# Altium integrated library ON Semi MOSFETs.IntLib: 1097 symbols (part 20 of 26)
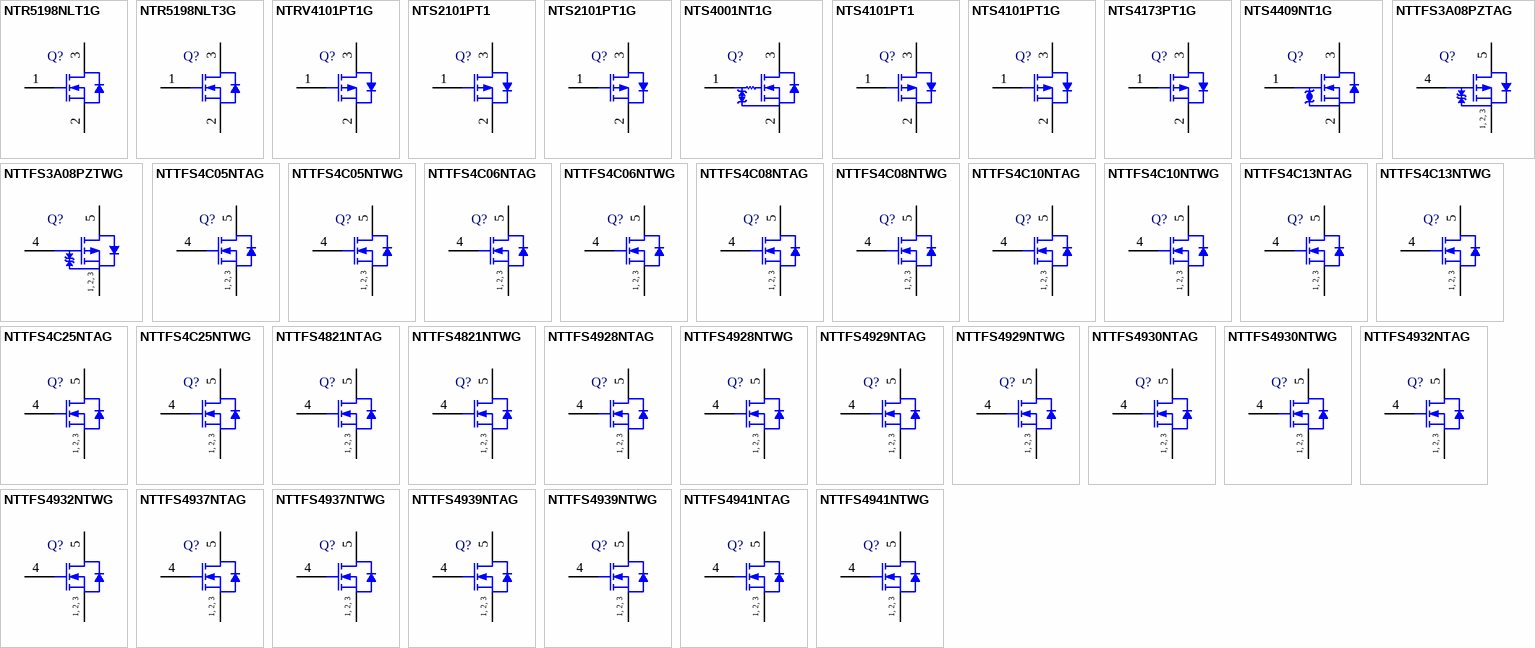
[diagram p50: symbols NTR5198NLT1G to NTTFS4941NTWG]

## NTTFS4C06NTWG
designator Q?
Power MOSFET, 30 V, 67 A, Single N-Channel, 8-Pin WDFN, Pb-Free, Tape and Reel; Manufacturer: On Semiconductor; PartNumber: NTTFS4C06NTWG; Channel Polarity: N Channel; Ciss Typ (pF): 1683; Coss Typ (pF): 841; Crss Typ (pF): 40; ID Max (A): 67; Qrr Typ (nC): 22; V(BR)DSS Min (V): 30; VGS Max (V): 20; VGS(th) Max (V): 2.2; DatasheetVersion: Rev. 0; PackageVersion: Rev. D, 04/2012; PackageReference: WDFN-8-511AB; PackageDescription: 8-Pin Small Outline No-Lead, Body 3.05 x 3.05 mm, Pitch 0.65 mm; Supplier 1: Newark; Supplier Part Number 1: 11X3692; Supplier 2: Mouser; Supplier Part Number 2: 863-NTTFS4C06NTWG; Configuration: Single; Package Type: u8FL / WDFN-8; Packing: Tape and Reel; RoHS: Pb-Free; Mounting Technology: Surface Mount; ComponentLink1Description: Manufacturer URL; ComponentLink1URL: http://www.onsemi.com/; ComponentLink2Description: Datasheet; ComponentLink2URL: http://www.onsemi.com/pub_link/Collateral/NTTFS4C06N-D.PDF; ComponentLink3Description: Package Specification; ComponentLink3URL: http://www.onsemi.com/pub_link/Collateral/511AB.PDF
footprint ONSC-WDFN-8-511AB_V (DFN, 8-Leads, Body 3.05x3.05mm, Pitch 0.65mm)
pins: 1 S, 2 S, 3 S, 4 G, 5 D
text: 1, 2, 3

## NTTFS4C08NTAG
designator Q?
Power MOSFET, 30 V, 52 A, Single N-Channel, 8-Pin WDFN, Pb-Free, Tape and Reel; Manufacturer: On Semiconductor; PartNumber: NTTFS4C08NTAG; Channel Polarity: N Channel; Ciss Typ (pF): 1113; Coss Typ (pF): 702; Crss Typ (pF): 39; ID Max (A): 52; Qrr Typ (nC): 15.3; V(BR)DSS Min (V): 30; VGS Max (V): 20; VGS(th) Max (V): 2.2; DatasheetVersion: Rev. 1; PackageVersion: Rev. D, 04/2012; PackageReference: WDFN-8-511AB; PackageDescription: 8-Pin Small Outline No-Lead, Body 3.05 x 3.05 mm, Pitch 0.65 mm; Supplier 1: Newark; Supplier Part Number 1: 11X3693; Supplier 2: Mouser; Supplier Part Number 2: 863-NTTFS4C08NTAG; Configuration: Single; Package Type: u8FL / WDFN-8; Packing: Tape and Reel; RoHS: Pb-Free; Mounting Technology: Surface Mount; ComponentLink1Description: Manufacturer URL; ComponentLink1URL: http://www.onsemi.com/; ComponentLink2Description: Datasheet; ComponentLink2URL: http://www.onsemi.com/pub_link/Collateral/NTTFS4C08N-D.PDF; ComponentLink3Description: Package Specification; ComponentLink3URL: http://www.onsemi.com/pub_link/Collateral/511AB.PDF
footprint ONSC-WDFN-8-511AB_V (DFN, 8-Leads, Body 3.05x3.05mm, Pitch 0.65mm)
pins: 1 S, 2 S, 3 S, 4 G, 5 D
text: 1, 2, 3

## NTTFS4C08NTWG
designator Q?
Power MOSFET, 30 V, 52 A, Single N-Channel, 8-Pin WDFN, Pb-Free, Tape and Reel; Manufacturer: On Semiconductor; PartNumber: NTTFS4C08NTWG; Channel Polarity: N Channel; Ciss Typ (pF): 1113; Coss Typ (pF): 702; Crss Typ (pF): 39; ID Max (A): 52; Qrr Typ (nC): 15.3; V(BR)DSS Min (V): 30; VGS Max (V): 20; VGS(th) Max (V): 2.2; DatasheetVersion: Rev. 1; PackageVersion: Rev. D, 04/2012; PackageReference: WDFN-8-511AB; PackageDescription: 8-Pin Small Outline No-Lead, Body 3.05 x 3.05 mm, Pitch 0.65 mm; Supplier 1: Newark; Supplier Part Number 1: 11X3694; Supplier 2: Mouser; Supplier Part Number 2: 863-NTTFS4C08NTWG; Configuration: Single; Package Type: u8FL / WDFN-8; Packing: Tape and Reel; RoHS: Pb-Free; Mounting Technology: Surface Mount; ComponentLink1Description: Manufacturer URL; ComponentLink1URL: http://www.onsemi.com/; ComponentLink2Description: Datasheet; ComponentLink2URL: http://www.onsemi.com/pub_link/Collateral/NTTFS4C08N-D.PDF; ComponentLink3Description: Package Specification; ComponentLink3URL: http://www.onsemi.com/pub_link/Collateral/511AB.PDF
footprint ONSC-WDFN-8-511AB_V (DFN, 8-Leads, Body 3.05x3.05mm, Pitch 0.65mm)
pins: 1 S, 2 S, 3 S, 4 G, 5 D
text: 1, 2, 3

## NTTFS4C10NTAG
designator Q?
Power MOSFET, 30 V, 44 A, Single N-Channel, 8-Pin WDFN, Pb-Free, Tape and Reel; Manufacturer: On Semiconductor; PartNumber: NTTFS4C10NTAG; Channel Polarity: N Channel; Ciss Typ (pF): 993; Coss Typ (pF): 574; Crss Typ (pF): 163; ID Max (A): 44; Qrr Typ (nC): 8.3; V(BR)DSS Min (V): 30; VGS Max (V): 20; VGS(th) Max (V): 2.2; DatasheetVersion: Rev. 2; PackageVersion: Rev. D, 04/2012; PackageReference: WDFN-8-511AB; PackageDescription: 8-Pin Small Outline No-Lead, Body 3.05 x 3.05 mm, Pitch 0.65 mm; Supplier 1: Newark; Supplier Part Number 1: 60W1814; Supplier 2: Mouser; Supplier Part Number 2: 863-NTTFS4C10NTAG; Configuration: Single; Package Type: u8FL / WDFN-8; Packing: Tape and Reel; RoHS: Pb-Free; Mounting Technology: Surface Mount; ComponentLink1Description: Manufacturer URL; ComponentLink1URL: http://www.onsemi.com/; ComponentLink2Description: Datasheet; ComponentLink2URL: http://www.onsemi.cn/pub_link/Collateral/NTTFS4C10N-D.PDF; ComponentLink3Description: Package Specification; ComponentLink3URL: http://www.onsemi.com/pub_link/Collateral/511AB.PDF
footprint ONSC-WDFN-8-511AB_V (DFN, 8-Leads, Body 3.05x3.05mm, Pitch 0.65mm)
pins: 1 S, 2 S, 3 S, 4 G, 5 D
text: 1, 2, 3

## NTTFS4C10NTWG
designator Q?
Power MOSFET, 30 V, 44 A, Single N-Channel, 8-Pin WDFN, Pb-Free, Tape and Reel; Manufacturer: On Semiconductor; PartNumber: NTTFS4C10NTWG; Channel Polarity: N Channel; Ciss Typ (pF): 993; Coss Typ (pF): 574; Crss Typ (pF): 163; ID Max (A): 44; Qrr Typ (nC): 8.3; V(BR)DSS Min (V): 30; VGS Max (V): 20; VGS(th) Max (V): 2.2; DatasheetVersion: Rev. 2; PackageVersion: Rev. D, 04/2012; PackageReference: WDFN-8-511AB; PackageDescription: 8-Pin Small Outline No-Lead, Body 3.05 x 3.05 mm, Pitch 0.65 mm; Supplier 1: Newark; Supplier Part Number 1: 60W1815; Supplier 2: Mouser; Supplier Part Number 2: 863-NTTFS4C10NTWG; Configuration: Single; Package Type: u8FL / WDFN-8; Packing: Tape and Reel; RoHS: Pb-Free; Mounting Technology: Surface Mount; ComponentLink1Description: Manufacturer URL; ComponentLink1URL: http://www.onsemi.com/; ComponentLink2Description: Datasheet; ComponentLink2URL: http://www.onsemi.cn/pub_link/Collateral/NTTFS4C10N-D.PDF; ComponentLink3Description: Package Specification; ComponentLink3URL: http://www.onsemi.com/pub_link/Collateral/511AB.PDF
footprint ONSC-WDFN-8-511AB_V (DFN, 8-Leads, Body 3.05x3.05mm, Pitch 0.65mm)
pins: 1 S, 2 S, 3 S, 4 G, 5 D
text: 1, 2, 3

## NTTFS4C13NTAG
designator Q?
Power MOSFET, 30 V, 38 A, Single N-Channel, 8-Pin WDFN, Pb-Free, Tape and Reel; Manufacturer: On Semiconductor; PartNumber: NTTFS4C13NTAG; Channel Polarity: N Channel; Ciss Typ (pF): 770; Coss Typ (pF): 443; Crss Typ (pF): 127; ID Max (A): 38; Qrr Typ (nC): 9.7; V(BR)DSS Min (V): 30; VGS Max (V): 20; VGS(th) Max (V): 2.1; DatasheetVersion: Rev. 0; PackageVersion: Rev. D, 04/2012; PackageReference: WDFN-8-511AB; PackageDescription: 8-Pin Small Outline No-Lead, Body 3.05 x 3.05 mm, Pitch 0.65 mm; Supplier 1: Newark; Supplier Part Number 1: 11X3695; Supplier 2: Mouser; Supplier Part Number 2: 863-NTTFS4C13NTAG; Configuration: Single; Package Type: u8FL / WDFN-8; Packing: Tape and Reel; RoHS: Pb-Free; Mounting Technology: Surface Mount; ComponentLink1Description: Manufacturer URL; ComponentLink1URL: http://www.onsemi.com/; ComponentLink2Description: Datasheet; ComponentLink2URL: http://www.onsemi.com/pub_link/Collateral/NTTFS4C13N-D.PDF; ComponentLink3Description: Package Specification; ComponentLink3URL: http://www.onsemi.com/pub_link/Collateral/511AB.PDF
footprint ONSC-WDFN-8-511AB_V (DFN, 8-Leads, Body 3.05x3.05mm, Pitch 0.65mm)
pins: 1 S, 2 S, 3 S, 4 G, 5 D
text: 1, 2, 3

## NTTFS4C13NTWG
designator Q?
Power MOSFET, 30 V, 38 A, Single N-Channel, 8-Pin WDFN, Pb-Free, Tape and Reel; Manufacturer: On Semiconductor; PartNumber: NTTFS4C13NTWG; Channel Polarity: N Channel; Ciss Typ (pF): 770; Coss Typ (pF): 443; Crss Typ (pF): 127; ID Max (A): 38; Qrr Typ (nC): 9.7; V(BR)DSS Min (V): 30; VGS Max (V): 20; VGS(th) Max (V): 2.1; DatasheetVersion: Rev. 0; PackageVersion: Rev. D, 04/2012; PackageReference: WDFN-8-511AB; PackageDescription: 8-Pin Small Outline No-Lead, Body 3.05 x 3.05 mm, Pitch 0.65 mm; Supplier 1: Newark; Supplier Part Number 1: 11X3696; Supplier 2: Mouser; Supplier Part Number 2: 863-NTTFS4C13NTWG; Configuration: Single; Package Type: u8FL / WDFN-8; Packing: Tape and Reel; RoHS: Pb-Free; Mounting Technology: Surface Mount; ComponentLink1Description: Manufacturer URL; ComponentLink1URL: http://www.onsemi.com/; ComponentLink2Description: Datasheet; ComponentLink2URL: http://www.onsemi.com/pub_link/Collateral/NTTFS4C13N-D.PDF; ComponentLink3Description: Package Specification; ComponentLink3URL: http://www.onsemi.com/pub_link/Collateral/511AB.PDF
footprint ONSC-WDFN-8-511AB_V (DFN, 8-Leads, Body 3.05x3.05mm, Pitch 0.65mm)
pins: 1 S, 2 S, 3 S, 4 G, 5 D
text: 1, 2, 3

## NTTFS4C25NTAG
designator Q?
Power MOSFET, 30 V, 27 A, Single N-Channel, 8-Pin WDFN, Pb-Free, Tape and Reel; Manufacturer: On Semiconductor; PartNumber: NTTFS4C25NTAG; Channel Polarity: N Channel; Ciss Typ (pF): 500; Coss Typ (pF): 295; Crss Typ (pF): 85; ID Max (A): 27; Qrr Typ (nC): 5.7; V(BR)DSS Min (V): 30; VGS Max (V): 20; VGS(th) Max (V): 2.2; DatasheetVersion: Rev. 0; PackageVersion: Rev. D, 04/2012; PackageReference: WDFN-8-511AB; PackageDescription: 8-Pin Small Outline No-Lead, Body 3.05 x 3.05 mm, Pitch 0.65 mm; Supplier 1: Newark; Supplier Part Number 1: 60W1816; Supplier 2: Mouser; Supplier Part Number 2: 863-NTTFS4C25NTAG; Configuration: Single; Package Type: u8FL / WDFN-8; Packing: Tape and Reel; RoHS: Pb-Free; Mounting Technology: Surface Mount; ComponentLink1Description: Manufacturer URL; ComponentLink1URL: http://www.onsemi.com/; ComponentLink2Description: Datasheet; ComponentLink2URL: http://www.onsemi.cn/pub_link/Collateral/NTTFS4C25N-D.PDF; ComponentLink3Description: Package Specification; ComponentLink3URL: http://www.onsemi.com/pub_link/Collateral/511AB.PDF
footprint ONSC-WDFN-8-511AB_V (DFN, 8-Leads, Body 3.05x3.05mm, Pitch 0.65mm)
pins: 1 S, 2 S, 3 S, 4 G, 5 D
text: 1, 2, 3

## NTTFS4C25NTWG
designator Q?
Power MOSFET, 30 V, 27 A, Single N-Channel, 8-Pin WDFN, Pb-Free, Tape and Reel; Manufacturer: On Semiconductor; PartNumber: NTTFS4C25NTWG; Channel Polarity: N Channel; Ciss Typ (pF): 500; Coss Typ (pF): 295; Crss Typ (pF): 85; ID Max (A): 27; Qrr Typ (nC): 5.7; V(BR)DSS Min (V): 30; VGS Max (V): 20; VGS(th) Max (V): 2.2; DatasheetVersion: Rev. 0; PackageVersion: Rev. D, 04/2012; PackageReference: WDFN-8-511AB; PackageDescription: 8-Pin Small Outline No-Lead, Body 3.05 x 3.05 mm, Pitch 0.65 mm; Supplier 1: Newark; Supplier Part Number 1: 60W1817; Supplier 2: Mouser; Supplier Part Number 2: 863-NTTFS4C25NTWG; Configuration: Single; Package Type: u8FL / WDFN-8; Packing: Tape and Reel; RoHS: Pb-Free; Mounting Technology: Surface Mount; ComponentLink1Description: Manufacturer URL; ComponentLink1URL: http://www.onsemi.com/; ComponentLink2Description: Datasheet; ComponentLink2URL: http://www.onsemi.cn/pub_link/Collateral/NTTFS4C25N-D.PDF; ComponentLink3Description: Package Specification; ComponentLink3URL: http://www.onsemi.com/pub_link/Collateral/511AB.PDF
footprint ONSC-WDFN-8-511AB_V (DFN, 8-Leads, Body 3.05x3.05mm, Pitch 0.65mm)
pins: 1 S, 2 S, 3 S, 4 G, 5 D
text: 1, 2, 3

## NTTFS4821NTAG
designator Q?
Power MOSFET, 30 V, 57 A, Single N-Channel, 8-Pin WDFN, Pb-Free, Tape and Reel; Manufacturer: On Semiconductor; PartNumber: NTTFS4821NTAG; Channel Polarity: N Channel; Ciss Typ (pF): 1300; Coss Typ (pF): 300; Crss Typ (pF): 150; ID Max (A): 57; Qrr Typ (nC): 1.7; V(BR)DSS Min (V): 30; VGS Max (V): 20; VGS(th) Max (V): 2.5; DatasheetVersion: Rev. 5; PackageVersion: Rev. D, 04/2012; PackageReference: WDFN-8-511AB; PackageDescription: 8-Pin Small Outline No-Lead, Body 3.05 x 3.05 mm, Pitch 0.65 mm; Supplier 1: Digi-Key; Supplier Part Number 1: NTTFS4821NTAGOSTR-ND; Supplier 2: Digi-Key; Supplier Part Number 2: NTTFS4821NTAGOSCT-ND; Supplier 3: Digi-Key; Supplier Part Number 3: NTTFS4821NTAGOSDKR-ND; Supplier 4: Mouser; Supplier Part Number 4: 863-NTTFS4821NTAG; Configuration: Single; Package Type: u8FL / WDFN-8; Packing: Tape and Reel; RoHS: Pb-Free; Mounting Technology: Surface Mount; ComponentLink1Description: Manufacturer URL; ComponentLink1URL: http://www.onsemi.com/; ComponentLink2Description: Datasheet; ComponentLink2URL: http://www.onsemi.cn/pub_link/Collateral/NTTFS4821N-D.PDF; ComponentLink3Description: Package Specification; ComponentLink3URL: http://www.onsemi.com/pub_link/Collateral/511AB.PDF
footprint ONSC-WDFN-8-511AB_V (DFN, 8-Leads, Body 3.05x3.05mm, Pitch 0.65mm)
pins: 1 S, 2 S, 3 S, 4 G, 5 D
text: 1, 2, 3

## NTTFS4821NTWG
designator Q?
Power MOSFET, 30 V, 57 A, Single N-Channel, 8-Pin WDFN, Pb-Free, Tape and Reel; Manufacturer: On Semiconductor; PartNumber: NTTFS4821NTWG; Channel Polarity: N Channel; Ciss Typ (pF): 1300; Coss Typ (pF): 300; Crss Typ (pF): 150; ID Max (A): 57; Qrr Typ (nC): 1.7; V(BR)DSS Min (V): 30; VGS Max (V): 20; VGS(th) Max (V): 2.5; DatasheetVersion: Rev. 5; PackageVersion: Rev. D, 04/2012; PackageReference: WDFN-8-511AB; PackageDescription: 8-Pin Small Outline No-Lead, Body 3.05 x 3.05 mm, Pitch 0.65 mm; Supplier 1: Digi-Key; Supplier Part Number 1: NTTFS4821NTWG-ND; Supplier 2: Mouser; Supplier Part Number 2: 863-NTTFS4821NTWG; Configuration: Single; Package Type: u8FL / WDFN-8; Packing: Tape and Reel; RoHS: Pb-Free; Mounting Technology: Surface Mount; ComponentLink1Description: Manufacturer URL; ComponentLink1URL: http://www.onsemi.com/; ComponentLink2Description: Datasheet; ComponentLink2URL: http://www.onsemi.cn/pub_link/Collateral/NTTFS4821N-D.PDF; ComponentLink3Description: Package Specification; ComponentLink3URL: http://www.onsemi.com/pub_link/Collateral/511AB.PDF
footprint ONSC-WDFN-8-511AB_V (DFN, 8-Leads, Body 3.05x3.05mm, Pitch 0.65mm)
pins: 1 S, 2 S, 3 S, 4 G, 5 D
text: 1, 2, 3

## NTTFS4928NTAG
designator Q?
Power MOSFET, 30 V, 37 A, Single N-Channel, 8-Pin WDFN, Pb-Free, Tape and Reel; Manufacturer: On Semiconductor; PartNumber: NTTFS4928NTAG; Channel Polarity: N Channel; Ciss Typ (pF): 913; Coss Typ (pF): 366; Crss Typ (pF): 108; ID Max (A): 37; Qrr Typ (nC): 8.4; V(BR)DSS Min (V): 30; VGS Max (V): 20; VGS(th) Max (V): 2.2; DatasheetVersion: Rev. 2; PackageVersion: Rev. D, 04/2012; PackageReference: WDFN-8-511AB; PackageDescription: 8-Pin Small Outline No-Lead, Body 3.05 x 3.05 mm, Pitch 0.65 mm; Supplier 1: Digi-Key; Supplier Part Number 1: NTTFS4928NTAGOSTR-ND; Supplier 2: Digi-Key; Supplier Part Number 2: NTTFS4928NTAGOSCT-ND; Supplier 3: Digi-Key; Supplier Part Number 3: NTTFS4928NTAGOSDKR-ND; Supplier 4: Mouser; Supplier Part Number 4: 863-NTTFS4928NTAG; Configuration: Single; Package Type: u8FL / WDFN-8; Packing: Tape and Reel; RoHS: Pb-Free; Mounting Technology: Surface Mount; ComponentLink1Description: Manufacturer URL; ComponentLink1URL: http://www.onsemi.com/; ComponentLink2Description: Datasheet; ComponentLink2URL: http://www.onsemi.cn/pub_link/Collateral/NTTFS4928N-D.PDF; ComponentLink3Description: Package Specification; ComponentLink3URL: http://www.onsemi.com/pub_link/Collateral/511AB.PDF
footprint ONSC-WDFN-8-511AB_V (DFN, 8-Leads, Body 3.05x3.05mm, Pitch 0.65mm)
pins: 1 S, 2 S, 3 S, 4 G, 5 D
text: 1, 2, 3

## NTTFS4928NTWG
designator Q?
Power MOSFET, 30 V, 37 A, Single N-Channel, 8-Pin WDFN, Pb-Free, Tape and Reel; Manufacturer: On Semiconductor; PartNumber: NTTFS4928NTWG; Channel Polarity: N Channel; Ciss Typ (pF): 913; Coss Typ (pF): 366; Crss Typ (pF): 108; ID Max (A): 37; Qrr Typ (nC): 8.4; V(BR)DSS Min (V): 30; VGS Max (V): 20; VGS(th) Max (V): 2.2; DatasheetVersion: Rev. 2; PackageVersion: Rev. D, 04/2012; PackageReference: WDFN-8-511AB; PackageDescription: 8-Pin Small Outline No-Lead, Body 3.05 x 3.05 mm, Pitch 0.65 mm; Supplier 1: Digi-Key; Supplier Part Number 1: NTTFS4928NTWG-ND; Supplier 2: Newark; Supplier Part Number 2: 52T8341; Supplier 3: Mouser; Supplier Part Number 3: 863-NTTFS4928NTWG; Configuration: Single; Package Type: u8FL / WDFN-8; Packing: Tape and Reel; RoHS: Pb-Free; Mounting Technology: Surface Mount; ComponentLink1Description: Manufacturer URL; ComponentLink1URL: http://www.onsemi.com/; ComponentLink2Description: Datasheet; ComponentLink2URL: http://www.onsemi.cn/pub_link/Collateral/NTTFS4928N-D.PDF; ComponentLink3Description: Package Specification; ComponentLink3URL: http://www.onsemi.com/pub_link/Collateral/511AB.PDF
footprint ONSC-WDFN-8-511AB_V (DFN, 8-Leads, Body 3.05x3.05mm, Pitch 0.65mm)
pins: 1 S, 2 S, 3 S, 4 G, 5 D
text: 1, 2, 3

## NTTFS4929NTAG
designator Q?
Power MOSFET, 30 V, 34 A, Single N-Channel, 8-Pin WDFN, Pb-Free, Tape and Reel; Manufacturer: On Semiconductor; PartNumber: NTTFS4929NTAG; Channel Polarity: N Channel; Ciss Typ (pF): 920; Coss Typ (pF): 337; Crss Typ (pF): 175; ID Max (A): 34; Qrr Typ (nC): 9.1; V(BR)DSS Min (V): 30; VGS Max (V): 20; VGS(th) Max (V): 2.2; DatasheetVersion: Rev. 1; PackageVersion: Rev. D, 04/2012; PackageReference: WDFN-8-511AB; PackageDescription: 8-Pin Small Outline No-Lead, Body 3.05 x 3.05 mm, Pitch 0.65 mm; Supplier 1: Digi-Key; Supplier Part Number 1: NTTFS4929NTAG-ND; Supplier 2: Mouser; Supplier Part Number 2: 863-NTTFS4929NTAG; Configuration: Single; Package Type: u8FL / WDFN-8; Packing: Tape and Reel; RoHS: Pb-Free; Mounting Technology: Surface Mount; ComponentLink1Description: Manufacturer URL; ComponentLink1URL: http://www.onsemi.com/; ComponentLink2Description: Datasheet; ComponentLink2URL: http://www.onsemi.cn/pub_link/Collateral/NTTFS4929N.PDF; ComponentLink3Description: Package Specification; ComponentLink3URL: http://www.onsemi.com/pub_link/Collateral/511AB.PDF
footprint ONSC-WDFN-8-511AB_V (DFN, 8-Leads, Body 3.05x3.05mm, Pitch 0.65mm)
pins: 1 S, 2 S, 3 S, 4 G, 5 D
text: 1, 2, 3

## NTTFS4929NTWG
designator Q?
Power MOSFET, 30 V, 34 A, Single N-Channel, 8-Pin WDFN, Pb-Free, Tape and Reel; Manufacturer: On Semiconductor; PartNumber: NTTFS4929NTWG; Channel Polarity: N Channel; Ciss Typ (pF): 920; Coss Typ (pF): 337; Crss Typ (pF): 175; ID Max (A): 34; Qrr Typ (nC): 9.1; V(BR)DSS Min (V): 30; VGS Max (V): 20; VGS(th) Max (V): 2.2; DatasheetVersion: Rev. 1; PackageVersion: Rev. D, 04/2012; PackageReference: WDFN-8-511AB; PackageDescription: 8-Pin Small Outline No-Lead, Body 3.05 x 3.05 mm, Pitch 0.65 mm; Supplier 1: Digi-Key; Supplier Part Number 1: NTTFS4929NTWG-ND; Supplier 2: Mouser; Supplier Part Number 2: 863-NTTFS4929NTWG; Configuration: Single; Package Type: u8FL / WDFN-8; Packing: Tape and Reel; RoHS: Pb-Free; Mounting Technology: Surface Mount; ComponentLink1Description: Manufacturer URL; ComponentLink1URL: http://www.onsemi.com/; ComponentLink2Description: Datasheet; ComponentLink2URL: http://www.onsemi.cn/pub_link/Collateral/NTTFS4929N.PDF; ComponentLink3Description: Package Specification; ComponentLink3URL: http://www.onsemi.com/pub_link/Collateral/511AB.PDF
footprint ONSC-WDFN-8-511AB_V (DFN, 8-Leads, Body 3.05x3.05mm, Pitch 0.65mm)
pins: 1 S, 2 S, 3 S, 4 G, 5 D
text: 1, 2, 3

## NTTFS4930NTAG
designator Q?
Power MOSFET, 30 V, 23 A, Single N-Channel, 8-Pin WDFN, Pb-Free, Tape and Reel; Manufacturer: On Semiconductor; PartNumber: NTTFS4930NTAG; Channel Polarity: N Channel; Ciss Typ (pF): 476; Coss Typ (pF): 197; Crss Typ (pF): 101; ID Max (A): 23; Qrr Typ (nC): 4.6; V(BR)DSS Min (V): 30; VGS Max (V): 20; VGS(th) Max (V): 2.2; DatasheetVersion: Rev. 2; PackageVersion: Rev. D, 04/2012; PackageReference: WDFN-8-511AB; PackageDescription: 8-Pin Small Outline No-Lead, Body 3.05 x 3.05 mm, Pitch 0.65 mm; Supplier 1: Digi-Key; Supplier Part Number 1: NTTFS4930NTAG-ND; Supplier 2: Mouser; Supplier Part Number 2: 863-NTTFS4930NTAG; Configuration: Single; Package Type: u8FL / WDFN-8; Packing: Tape and Reel; RoHS: Pb-Free; Mounting Technology: Surface Mount; ComponentLink1Description: Manufacturer URL; ComponentLink1URL: http://www.onsemi.com/; ComponentLink2Description: Datasheet; ComponentLink2URL: http://www.onsemi.cn/pub_link/Collateral/NTTFS4930N-D.PDF; ComponentLink3Description: Package Specification; ComponentLink3URL: http://www.onsemi.com/pub_link/Collateral/511AB.PDF
footprint ONSC-WDFN-8-511AB_V (DFN, 8-Leads, Body 3.05x3.05mm, Pitch 0.65mm)
pins: 1 S, 2 S, 3 S, 4 G, 5 D
text: 1, 2, 3

## NTTFS4930NTWG
designator Q?
Power MOSFET, 30 V, 23 A, Single N-Channel, 8-Pin WDFN, Pb-Free, Tape and Reel; Manufacturer: On Semiconductor; PartNumber: NTTFS4930NTWG; Channel Polarity: N Channel; Ciss Typ (pF): 476; Coss Typ (pF): 197; Crss Typ (pF): 101; ID Max (A): 23; Qrr Typ (nC): 4.6; V(BR)DSS Min (V): 30; VGS Max (V): 20; VGS(th) Max (V): 2.2; DatasheetVersion: Rev. 2; PackageVersion: Rev. D, 04/2012; PackageReference: WDFN-8-511AB; PackageDescription: 8-Pin Small Outline No-Lead, Body 3.05 x 3.05 mm, Pitch 0.65 mm; Supplier 1: Digi-Key; Supplier Part Number 1: NTTFS4930NTWG-ND; Supplier 2: Mouser; Supplier Part Number 2: 863-NTTFS4930NTWG; Configuration: Single; Package Type: u8FL / WDFN-8; Packing: Tape and Reel; RoHS: Pb-Free; Mounting Technology: Surface Mount; ComponentLink1Description: Manufacturer URL; ComponentLink1URL: http://www.onsemi.com/; ComponentLink2Description: Datasheet; ComponentLink2URL: http://www.onsemi.cn/pub_link/Collateral/NTTFS4930N-D.PDF; ComponentLink3Description: Package Specification; ComponentLink3URL: http://www.onsemi.com/pub_link/Collateral/511AB.PDF
footprint ONSC-WDFN-8-511AB_V (DFN, 8-Leads, Body 3.05x3.05mm, Pitch 0.65mm)
pins: 1 S, 2 S, 3 S, 4 G, 5 D
text: 1, 2, 3

## NTTFS4932NTAG
designator Q?
Power MOSFET, 30 V, 79 A, Single N-Channel, 8-Pin WDFN, Pb-Free, Tape and Reel; Manufacturer: On Semiconductor; PartNumber: NTTFS4932NTAG; Channel Polarity: N Channel; Ciss Typ (pF): 3111; Coss Typ (pF): 1064; Crss Typ (pF): 42; ID Max (A): 79; Qrr Typ (nC): 37.5; V(BR)DSS Min (V): 30; VGS Max (V): 20; VGS(th) Max (V): 2.2; DatasheetVersion: Rev. 2; PackageVersion: Rev. D, 04/2012; PackageReference: WDFN-8-511AB; PackageDescription: 8-Pin Small Outline No-Lead, Body 3.05 x 3.05 mm, Pitch 0.65 mm; Supplier 1: Digi-Key; Supplier Part Number 1: NTTFS4932NTAGOSTR-ND; Supplier 2: Digi-Key; Supplier Part Number 2: NTTFS4932NTAGOSCT-ND; Supplier 3: Digi-Key; Supplier Part Number 3: NTTFS4932NTAGOSDKR-ND; Supplier 4: Mouser; Supplier Part Number 4: 863-NTTFS4932NTAG; Configuration: Single; Package Type: u8FL / WDFN-8; Packing: Tape and Reel; RoHS: Pb-Free; Mounting Technology: Surface Mount; ComponentLink1Description: Manufacturer URL; ComponentLink1URL: http://www.onsemi.com/; ComponentLink2Description: Datasheet; ComponentLink2URL: http://www.onsemi.cn/pub_link/Collateral/NTTFS4932N-D.PDF; ComponentLink3Description: Package Specification; ComponentLink3URL: http://www.onsemi.com/pub_link/Collateral/511AB.PDF
footprint ONSC-WDFN-8-511AB_V (DFN, 8-Leads, Body 3.05x3.05mm, Pitch 0.65mm)
pins: 1 S, 2 S, 3 S, 4 G, 5 D
text: 1, 2, 3

## NTTFS4932NTWG
designator Q?
Power MOSFET, 30 V, 79 A, Single N-Channel, 8-Pin WDFN, Pb-Free, Tape and Reel; Manufacturer: On Semiconductor; PartNumber: NTTFS4932NTWG; Channel Polarity: N Channel; Ciss Typ (pF): 3111; Coss Typ (pF): 1064; Crss Typ (pF): 42; ID Max (A): 79; Qrr Typ (nC): 37.5; V(BR)DSS Min (V): 30; VGS Max (V): 20; VGS(th) Max (V): 2.2; DatasheetVersion: Rev. 2; PackageVersion: Rev. D, 04/2012; PackageReference: WDFN-8-511AB; PackageDescription: 8-Pin Small Outline No-Lead, Body 3.05 x 3.05 mm, Pitch 0.65 mm; Supplier 1: Digi-Key; Supplier Part Number 1: NTTFS4932NTWG-ND; Supplier 2: Mouser; Supplier Part Number 2: 863-NTTFS4932NTWG; Configuration: Single; Package Type: u8FL / WDFN-8; Packing: Tape and Reel; RoHS: Pb-Free; Mounting Technology: Surface Mount; ComponentLink1Description: Manufacturer URL; ComponentLink1URL: http://www.onsemi.com/; ComponentLink2Description: Datasheet; ComponentLink2URL: http://www.onsemi.cn/pub_link/Collateral/NTTFS4932N-D.PDF; ComponentLink3Description: Package Specification; ComponentLink3URL: http://www.onsemi.com/pub_link/Collateral/511AB.PDF
footprint ONSC-WDFN-8-511AB_V (DFN, 8-Leads, Body 3.05x3.05mm, Pitch 0.65mm)
pins: 1 S, 2 S, 3 S, 4 G, 5 D
text: 1, 2, 3

## NTTFS4937NTAG
designator Q?
Power MOSFET, 30 V, 75 A, Single N-Channel, 8-Pin WDFN, Pb-Free, Tape and Reel; Manufacturer: On Semiconductor; PartNumber: NTTFS4937NTAG; Channel Polarity: N Channel; Ciss Typ (pF): 2540; Coss Typ (pF): 893; Crss Typ (pF): 26; ID Max (A): 75; Qrr Typ (nC): 33; V(BR)DSS Min (V): 30; VGS Max (V): 20; VGS(th) Max (V): 2.2; DatasheetVersion: Rev. 3; PackageVersion: Rev. D, 04/2012; PackageReference: WDFN-8-511AB; PackageDescription: 8-Pin Small Outline No-Lead, Body 3.05 x 3.05 mm, Pitch 0.65 mm; Supplier 1: Digi-Key; Supplier Part Number 1: NTTFS4937NTAG-ND; Supplier 2: Mouser; Supplier Part Number 2: 863-NTTFS4937NTAG; Configuration: Single; Package Type: u8FL / WDFN-8; Packing: Tape and Reel; RoHS: Pb-Free; Mounting Technology: Surface Mount; ComponentLink1Description: Manufacturer URL; ComponentLink1URL: http://www.onsemi.com/; ComponentLink2Description: Datasheet; ComponentLink2URL: http://www.onsemi.cn/pub_link/Collateral/NTTFS4937N-D.PDF; ComponentLink3Description: Package Specification; ComponentLink3URL: http://www.onsemi.com/pub_link/Collateral/511AB.PDF
footprint ONSC-WDFN-8-511AB_V (DFN, 8-Leads, Body 3.05x3.05mm, Pitch 0.65mm)
pins: 1 S, 2 S, 3 S, 4 G, 5 D
text: 1, 2, 3

## NTTFS4937NTWG
designator Q?
Power MOSFET, 30 V, 75 A, Single N-Channel, 8-Pin WDFN, Pb-Free, Tape and Reel; Manufacturer: On Semiconductor; PartNumber: NTTFS4937NTWG; Channel Polarity: N Channel; Ciss Typ (pF): 2540; Coss Typ (pF): 893; Crss Typ (pF): 26; ID Max (A): 75; Qrr Typ (nC): 33; V(BR)DSS Min (V): 30; VGS Max (V): 20; VGS(th) Max (V): 2.2; DatasheetVersion: Rev. 3; PackageVersion: Rev. D, 04/2012; PackageReference: WDFN-8-511AB; PackageDescription: 8-Pin Small Outline No-Lead, Body 3.05 x 3.05 mm, Pitch 0.65 mm; Supplier 1: Digi-Key; Supplier Part Number 1: NTTFS4937NTWG-ND; Supplier 2: Mouser; Supplier Part Number 2: 863-NTTFS4937NTWG; Configuration: Single; Package Type: u8FL / WDFN-8; Packing: Tape and Reel; RoHS: Pb-Free; Mounting Technology: Surface Mount; ComponentLink1Description: Manufacturer URL; ComponentLink1URL: http://www.onsemi.com/; ComponentLink2Description: Datasheet; ComponentLink2URL: http://www.onsemi.cn/pub_link/Collateral/NTTFS4937N-D.PDF; ComponentLink3Description: Package Specification; ComponentLink3URL: http://www.onsemi.com/pub_link/Collateral/511AB.PDF
footprint ONSC-WDFN-8-511AB_V (DFN, 8-Leads, Body 3.05x3.05mm, Pitch 0.65mm)
pins: 1 S, 2 S, 3 S, 4 G, 5 D
text: 1, 2, 3

## NTTFS4939NTAG
designator Q?
Power MOSFET, 30 V, 52 A, Single N-Channel, 8-Pin WDFN, Pb-Free, Tape and Reel; Manufacturer: On Semiconductor; PartNumber: NTTFS4939NTAG; Channel Polarity: N Channel; Ciss Typ (pF): 1979; Coss Typ (pF): 711; Crss Typ (pF): 20.2; ID Max (A): 52; Qrr Typ (nC): 28; V(BR)DSS Min (V): 30; VGS Max (V): 20; VGS(th) Max (V): 2.2; DatasheetVersion: Rev. 3; PackageVersion: Rev. D, 04/2012; PackageReference: WDFN-8-511AB; PackageDescription: 8-Pin Small Outline No-Lead, Body 3.05 x 3.05 mm, Pitch 0.65 mm; Supplier 1: Digi-Key; Supplier Part Number 1: NTTFS4939NTAG-ND; Supplier 2: Newark; Supplier Part Number 2: 52R8727; Supplier 3: Mouser; Supplier Part Number 3: 863-NTTFS4939NTAG; Configuration: Single; Package Type: u8FL / WDFN-8; Packing: Tape and Reel; RoHS: Pb-Free; Mounting Technology: Surface Mount; ComponentLink1Description: Manufacturer URL; ComponentLink1URL: http://www.onsemi.com/; ComponentLink2Description: Datasheet; ComponentLink2URL: http://www.onsemi.cn/pub_link/Collateral/NTTFS4939N-D.PDF; ComponentLink3Description: Package Specification; ComponentLink3URL: http://www.onsemi.com/pub_link/Collateral/511AB.PDF
footprint ONSC-WDFN-8-511AB_V (DFN, 8-Leads, Body 3.05x3.05mm, Pitch 0.65mm)
pins: 1 S, 2 S, 3 S, 4 G, 5 D
text: 1, 2, 3

## NTTFS4939NTWG
designator Q?
Power MOSFET, 30 V, 52 A, Single N-Channel, 8-Pin WDFN, Pb-Free, Tape and Reel; Manufacturer: On Semiconductor; PartNumber: NTTFS4939NTWG; Channel Polarity: N Channel; Ciss Typ (pF): 1979; Coss Typ (pF): 711; Crss Typ (pF): 20.2; ID Max (A): 52; Qrr Typ (nC): 28; V(BR)DSS Min (V): 30; VGS Max (V): 20; VGS(th) Max (V): 2.2; DatasheetVersion: Rev. 3; PackageVersion: Rev. D, 04/2012; PackageReference: WDFN-8-511AB; PackageDescription: 8-Pin Small Outline No-Lead, Body 3.05 x 3.05 mm, Pitch 0.65 mm; Supplier 1: Digi-Key; Supplier Part Number 1: NTTFS4939NTWG-ND; Supplier 2: Newark; Supplier Part Number 2: 52R8728; Supplier 3: Mouser; Supplier Part Number 3: 863-NTTFS4939NTWG; Configuration: Single; Package Type: u8FL / WDFN-8; Packing: Tape and Reel; RoHS: Pb-Free; Mounting Technology: Surface Mount; ComponentLink1Description: Manufacturer URL; ComponentLink1URL: http://www.onsemi.com/; ComponentLink2Description: Datasheet; ComponentLink2URL: http://www.onsemi.cn/pub_link/Collateral/NTTFS4939N-D.PDF; ComponentLink3Description: Package Specification; ComponentLink3URL: http://www.onsemi.com/pub_link/Collateral/511AB.PDF
footprint ONSC-WDFN-8-511AB_V (DFN, 8-Leads, Body 3.05x3.05mm, Pitch 0.65mm)
pins: 1 S, 2 S, 3 S, 4 G, 5 D
text: 1, 2, 3

## NTTFS4941NTAG
designator Q?
Power MOSFET, 30 V, 46 A, Single N-Channel, 8-Pin WDFN, Pb-Free, Tape and Reel; Manufacturer: On Semiconductor; PartNumber: NTTFS4941NTAG; Channel Polarity: N Channel; Ciss Typ (pF): 1619; Coss Typ (pF): 573; Crss Typ (pF): 18; ID Max (A): 46; Qrr Typ (nC): 22; V(BR)DSS Min (V): 30; VGS Max (V): 20; VGS(th) Max (V): 2.2; DatasheetVersion: Rev. 2; PackageVersion: Rev. D, 04/2012; PackageReference: WDFN-8-511AB; PackageDescription: 8-Pin Small Outline No-Lead, Body 3.05 x 3.05 mm, Pitch 0.65 mm; Supplier 1: Digi-Key; Supplier Part Number 1: NTTFS4941NTAG-ND; Supplier 2: Mouser; Supplier Part Number 2: 863-NTTFS4941NTAG; Configuration: Single; Package Type: u8FL / WDFN-8; Packing: Tape and Reel; RoHS: Pb-Free; Mounting Technology: Surface Mount; ComponentLink1Description: Manufacturer URL; ComponentLink1URL: http://www.onsemi.com/; ComponentLink2Description: Datasheet; ComponentLink2URL: http://www.onsemi.cn/pub_link/Collateral/NTTFS4941N-D.PDF; ComponentLink3Description: Package Specification; ComponentLink3URL: http://www.onsemi.com/pub_link/Collateral/511AB.PDF
footprint ONSC-WDFN-8-511AB_V (DFN, 8-Leads, Body 3.05x3.05mm, Pitch 0.65mm)
pins: 1 S, 2 S, 3 S, 4 G, 5 D
text: 1, 2, 3

## NTTFS4941NTWG
designator Q?
Power MOSFET, 30 V, 46 A, Single N-Channel, 8-Pin WDFN, Pb-Free, Tape and Reel; Manufacturer: On Semiconductor; PartNumber: NTTFS4941NTWG; Channel Polarity: N Channel; Ciss Typ (pF): 1619; Coss Typ (pF): 573; Crss Typ (pF): 18; ID Max (A): 46; Qrr Typ (nC): 22; V(BR)DSS Min (V): 30; VGS Max (V): 20; VGS(th) Max (V): 2.2; DatasheetVersion: Rev. 2; PackageVersion: Rev. D, 04/2012; PackageReference: WDFN-8-511AB; PackageDescription: 8-Pin Small Outline No-Lead, Body 3.05 x 3.05 mm, Pitch 0.65 mm; Supplier 1: Digi-Key; Supplier Part Number 1: NTTFS4941NTWG-ND; Supplier 2: Mouser; Supplier Part Number 2: 863-NTTFS4941NTWG; Configuration: Single; Package Type: u8FL / WDFN-8; Packing: Tape and Reel; RoHS: Pb-Free; Mounting Technology: Surface Mount; ComponentLink1Description: Manufacturer URL; ComponentLink1URL: http://www.onsemi.com/; ComponentLink2Description: Datasheet; ComponentLink2URL: http://www.onsemi.cn/pub_link/Collateral/NTTFS4941N-D.PDF; ComponentLink3Description: Package Specification; ComponentLink3URL: http://www.onsemi.com/pub_link/Collateral/511AB.PDF
footprint ONSC-WDFN-8-511AB_V (DFN, 8-Leads, Body 3.05x3.05mm, Pitch 0.65mm)
pins: 1 S, 2 S, 3 S, 4 G, 5 D
text: 1, 2, 3

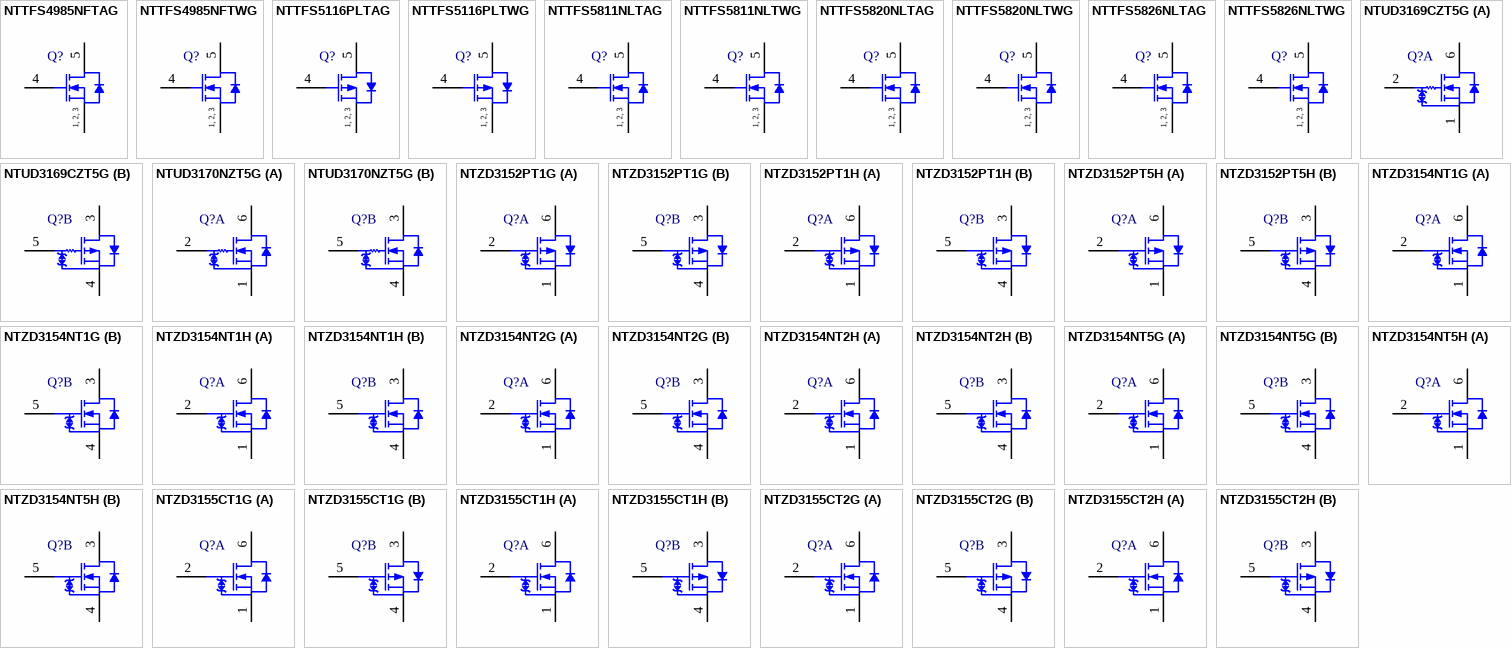
[diagram p24: symbols NTTFS4985NFTAG to NTZD3155CT2H]

## NTTFS4985NFTAG
designator Q?
Power MOSFET, 30 V, 64 A, Single N-Channel, 8-Pin WDFN, Pb-Free, Tape and Reel; Manufacturer: On Semiconductor; PartNumber: NTTFS4985NFTAG; Channel Polarity: N Channel; Ciss Typ (pF): 2075; Configuration: with Schottky Diode; Coss Typ (pF): 876; Crss Typ (pF): 46; ID Max (A): 64; Qrr Typ (nC): 32; V(BR)DSS Min (V): 30; VGS Max (V): 20; VGS(th) Max (V): 2.3; DatasheetVersion: Rev. 1; PackageVersion: Rev. D, 04/2012; PackageReference: WDFN-8-511AB; PackageDescription: 8-Pin Small Outline No-Lead, Body 3.05 x 3.05 mm, Pitch 0.65 mm; Supplier 1: Digi-Key; Supplier Part Number 1: NTTFS4985NFTAGOSTR-ND; Supplier 2: Digi-Key; Supplier Part Number 2: NTTFS4985NFTAGOSCT-ND; Supplier 3: Digi-Key; Supplier Part Number 3: NTTFS4985NFTAGOSDKR-ND; Supplier 4: Newark; Supplier Part Number 4: 92T2209; Supplier 5: Mouser; Supplier Part Number 5: 863-NTTFS4985NFTAG; Package Type: u8FL / WDFN-8; Packing: Tape and Reel; RoHS: Pb-Free; Mounting Technology: Surface Mount; ComponentLink1Description: Manufacturer URL; ComponentLink1URL: http://www.onsemi.com/; ComponentLink2Description: Datasheet; ComponentLink2URL: http://www.onsemi.cn/pub_link/Collateral/NTTFS4985NF-D.PDF; ComponentLink3Description: Package Specification; ComponentLink3URL: http://www.onsemi.com/pub_link/Collateral/511AB.PDF
footprint ONSC-WDFN-8-511AB_V (DFN, 8-Leads, Body 3.05x3.05mm, Pitch 0.65mm)
pins: 1 S, 2 S, 3 S, 4 G, 5 D
text: 1, 2, 3

## NTTFS4985NFTWG
designator Q?
Power MOSFET, 30 V, 64 A, Single N-Channel, 8-Pin WDFN, Pb-Free, Tape and Reel; Manufacturer: On Semiconductor; PartNumber: NTTFS4985NFTWG; Channel Polarity: N Channel; Ciss Typ (pF): 2075; Configuration: with Schottky Diode; Coss Typ (pF): 876; Crss Typ (pF): 46; ID Max (A): 64; Qrr Typ (nC): 32; V(BR)DSS Min (V): 30; VGS Max (V): 20; VGS(th) Max (V): 2.3; DatasheetVersion: Rev. 1; PackageVersion: Rev. D, 04/2012; PackageReference: WDFN-8-511AB; PackageDescription: 8-Pin Small Outline No-Lead, Body 3.05 x 3.05 mm, Pitch 0.65 mm; Package Type: u8FL / WDFN-8; Packing: Tape and Reel; RoHS: Pb-Free; Mounting Technology: Surface Mount; ComponentLink1Description: Manufacturer URL; ComponentLink1URL: http://www.onsemi.com/; ComponentLink2Description: Datasheet; ComponentLink2URL: http://www.onsemi.cn/pub_link/Collateral/NTTFS4985NF-D.PDF; ComponentLink3Description: Package Specification; ComponentLink3URL: http://www.onsemi.com/pub_link/Collateral/511AB.PDF
footprint ONSC-WDFN-8-511AB_V (DFN, 8-Leads, Body 3.05x3.05mm, Pitch 0.65mm)
pins: 1 S, 2 S, 3 S, 4 G, 5 D
text: 1, 2, 3

## NTTFS5116PLTAG
designator Q?
Power MOSFET, -60 V, -20 A, 52 mOhm, 8-Pin WDFN, Pb-Free, Tape and Reel; Manufacturer: On Semiconductor; PartNumber: NTTFS5116PLTAG; Channel Polarity: P Channel; Ciss Typ (pF): 1258; Configuration: Single; Coss Typ (pF): 127; Crss Typ (pF): 84; ID Max (A): 20; Qrr Typ (nC): 19; V(BR)DSS Min (V): 60; VGS(th) Max (V): 3; DatasheetVersion: Rev. 1; PackageVersion: Rev. D, 04/2012; PackageReference: WDFN-8-511AB; PackageDescription: 8-Pin Small Outline No-Lead, Body 3.05 x 3.05 mm, Pitch 0.65 mm; Supplier 1: Digi-Key; Supplier Part Number 1: NTTFS5116PLTAGOSTR-ND; Supplier 2: Digi-Key; Supplier Part Number 2: NTTFS5116PLTAGOSCT-ND; Supplier 3: Digi-Key; Supplier Part Number 3: NTTFS5116PLTAGOSDKR-ND; Supplier 4: Mouser; Supplier Part Number 4: 863-NTTFS5116PLTAG; Package Type: u8FL / WDFN-8; Packing: Tape and Reel; RoHS: Pb-Free; VGS Max (V): 20; Mounting Technology: Surface Mount; ComponentLink1Description: Manufacturer URL; ComponentLink1URL: http://www.onsemi.com/; ComponentLink2Description: Datasheet; ComponentLink2URL: http://www.onsemi.cn/pub_link/Collateral/NTTFS5116PL-D.PDF; ComponentLink3Description: Package Specification; ComponentLink3URL: http://www.onsemi.com/pub_link/Collateral/511AB.PDF
footprint ONSC-WDFN-8-511AB_V (DFN, 8-Leads, Body 3.05x3.05mm, Pitch 0.65mm)
pins: 1 S, 2 S, 3 S, 4 G, 5 D
text: 1, 2, 3

## NTTFS5116PLTWG
designator Q?
Power MOSFET, -60 V, -20 A, 52 mOhm, 8-Pin WDFN, Pb-Free, Tape and Reel; Manufacturer: On Semiconductor; PartNumber: NTTFS5116PLTWG; Channel Polarity: P Channel; Ciss Typ (pF): 1258; Configuration: Single; Coss Typ (pF): 127; Crss Typ (pF): 84; ID Max (A): 20; Qrr Typ (nC): 19; V(BR)DSS Min (V): 60; VGS(th) Max (V): 3; DatasheetVersion: Rev. 1; PackageVersion: Rev. D, 04/2012; PackageReference: WDFN-8-511AB; PackageDescription: 8-Pin Small Outline No-Lead, Body 3.05 x 3.05 mm, Pitch 0.65 mm; Supplier 1: Digi-Key; Supplier Part Number 1: NTTFS5116PLTWG-ND; Supplier 2: Mouser; Supplier Part Number 2: 863-NTTFS5116PLTWG; Package Type: u8FL / WDFN-8; Packing: Tape and Reel; RoHS: Pb-Free; VGS Max (V): 20; Mounting Technology: Surface Mount; ComponentLink1Description: Manufacturer URL; ComponentLink1URL: http://www.onsemi.com/; ComponentLink2Description: Datasheet; ComponentLink2URL: http://www.onsemi.cn/pub_link/Collateral/NTTFS5116PL-D.PDF; ComponentLink3Description: Package Specification; ComponentLink3URL: http://www.onsemi.com/pub_link/Collateral/511AB.PDF
footprint ONSC-WDFN-8-511AB_V (DFN, 8-Leads, Body 3.05x3.05mm, Pitch 0.65mm)
pins: 1 S, 2 S, 3 S, 4 G, 5 D
text: 1, 2, 3

## NTTFS5811NLTAG
designator Q?
Power MOSFET, 40 V, 53 A, 6.4 mOhm, 8-Pin WDFN, Pb-Free, Tape and Reel; Manufacturer: On Semiconductor; PartNumber: NTTFS5811NLTAG; Channel Polarity: N Channel; Ciss Typ (pF): 1570; Configuration: Single; Coss Typ (pF): 215; Crss Typ (pF): 157; ID Max (A): 53; Qrr Typ (nC): 12; V(BR)DSS Min (V): 40; VGS Max (V): 20; VGS(th) Max (V): 2.2; DatasheetVersion: Rev. 3; PackageVersion: Rev. D, 04/2012; PackageReference: WDFN-8-511AB; PackageDescription: 8-Pin Small Outline No-Lead, Body 3.05 x 3.05 mm, Pitch 0.65 mm; Supplier 1: Digi-Key; Supplier Part Number 1: NTTFS5811NLTAGOSTR-ND; Supplier 2: Digi-Key; Supplier Part Number 2: NTTFS5811NLTAGOSCT-ND; Supplier 3: Digi-Key; Supplier Part Number 3: NTTFS5811NLTAGOSDKR-ND; Supplier 4: Farnell; Supplier Part Number 4: 2317604; Supplier 5: Newark; Supplier Part Number 5: 90W9317; Supplier 6: Newark; Supplier Part Number 6: 85W3191; Supplier 7: Mouser; Supplier Part Number 7: 863-NTTFS5811NLTAG; Package Type: u8FL / WDFN-8; Packing: Tape and Reel; RoHS: Pb-Free; Mounting Technology: Surface Mount; ComponentLink1Description: Manufacturer URL; ComponentLink1URL: http://www.onsemi.com/; ComponentLink2Description: Datasheet; ComponentLink2URL: http://www.onsemi.cn/pub_link/Collateral/NTTFS5811NL-D.PDF; ComponentLink3Description: Package Specification; ComponentLink3URL: http://www.onsemi.com/pub_link/Collateral/511AB.PDF
footprint ONSC-WDFN-8-511AB_V (DFN, 8-Leads, Body 3.05x3.05mm, Pitch 0.65mm)
pins: 1 S, 2 S, 3 S, 4 G, 5 D
text: 1, 2, 3

## NTTFS5811NLTWG
designator Q?
Power MOSFET, 40 V, 53 A, 6.4 mOhm, 8-Pin WDFN, Pb-Free, Tape and Reel; Manufacturer: On Semiconductor; PartNumber: NTTFS5811NLTWG; Channel Polarity: N Channel; Ciss Typ (pF): 1570; Configuration: Single; Coss Typ (pF): 215; Crss Typ (pF): 157; ID Max (A): 53; Qrr Typ (nC): 12; V(BR)DSS Min (V): 40; VGS Max (V): 20; VGS(th) Max (V): 2.2; DatasheetVersion: Rev. 3; PackageVersion: Rev. D, 04/2012; PackageReference: WDFN-8-511AB; PackageDescription: 8-Pin Small Outline No-Lead, Body 3.05 x 3.05 mm, Pitch 0.65 mm; Supplier 1: Digi-Key; Supplier Part Number 1: NTTFS5811NLTWG-ND; Supplier 2: Mouser; Supplier Part Number 2: 863-NTTFS5811NLTWG; Package Type: u8FL / WDFN-8; Packing: Tape and Reel; RoHS: Pb-Free; Mounting Technology: Surface Mount; ComponentLink1Description: Manufacturer URL; ComponentLink1URL: http://www.onsemi.com/; ComponentLink2Description: Datasheet; ComponentLink2URL: http://www.onsemi.cn/pub_link/Collateral/NTTFS5811NL-D.PDF; ComponentLink3Description: Package Specification; ComponentLink3URL: http://www.onsemi.com/pub_link/Collateral/511AB.PDF
footprint ONSC-WDFN-8-511AB_V (DFN, 8-Leads, Body 3.05x3.05mm, Pitch 0.65mm)
pins: 1 S, 2 S, 3 S, 4 G, 5 D
text: 1, 2, 3

## NTTFS5820NLTAG
designator Q?
Power MOSFET, 60 V, 37 A, 11.5 mOhm, 8-Pin WDFN, Pb-Free, Tape and Reel; Manufacturer: On Semiconductor; PartNumber: NTTFS5820NLTAG; Channel Polarity: N Channel; Ciss Typ (pF): 1462; Configuration: Single; Coss Typ (pF): 150; Crss Typ (pF): 96; ID Max (A): 37; Qrr Typ (nC): 15; V(BR)DSS Min (V): 60; VGS Max (V): 20; VGS(th) Max (V): 2.3; DatasheetVersion: Rev. 1; PackageVersion: Rev. D, 04/2012; PackageReference: WDFN-8-511AB; PackageDescription: 8-Pin Small Outline No-Lead, Body 3.05 x 3.05 mm, Pitch 0.65 mm; Supplier 1: Digi-Key; Supplier Part Number 1: NTTFS5820NLTAGOSTR-ND; Supplier 2: Digi-Key; Supplier Part Number 2: NTTFS5820NLTAGOSCT-ND; Supplier 3: Digi-Key; Supplier Part Number 3: NTTFS5820NLTAGOSDKR-ND; Supplier 4: Farnell; Supplier Part Number 4: 2317610; Supplier 5: Newark; Supplier Part Number 5: 85W3192; Supplier 6: Newark; Supplier Part Number 6: 79R3546; Supplier 7: Mouser; Supplier Part Number 7: 863-NTTFS5820NLTAG; Package Type: u8FL / WDFN-8; Packing: Tape and Reel; RoHS: Pb-Free; Mounting Technology: Surface Mount; ComponentLink1Description: Manufacturer URL; ComponentLink1URL: http://www.onsemi.com/; ComponentLink2Description: Datasheet; ComponentLink2URL: http://www.onsemi.cn/pub_link/Collateral/NTTFS5820NL-D.PDF; ComponentLink3Description: Package Specification; ComponentLink3URL: http://www.onsemi.com/pub_link/Collateral/511AB.PDF
footprint ONSC-WDFN-8-511AB_V (DFN, 8-Leads, Body 3.05x3.05mm, Pitch 0.65mm)
pins: 1 S, 2 S, 3 S, 4 G, 5 D
text: 1, 2, 3

## NTTFS5820NLTWG
designator Q?
Power MOSFET, 60 V, 37 A, 11.5 mOhm, 8-Pin WDFN, Pb-Free, Tape and Reel; Manufacturer: On Semiconductor; PartNumber: NTTFS5820NLTWG; Channel Polarity: N Channel; Ciss Typ (pF): 1462; Configuration: Single; Coss Typ (pF): 150; Crss Typ (pF): 96; ID Max (A): 37; Qrr Typ (nC): 15; V(BR)DSS Min (V): 60; VGS Max (V): 20; VGS(th) Max (V): 2.3; DatasheetVersion: Rev. 1; PackageVersion: Rev. D, 04/2012; PackageReference: WDFN-8-511AB; PackageDescription: 8-Pin Small Outline No-Lead, Body 3.05 x 3.05 mm, Pitch 0.65 mm; Supplier 1: Digi-Key; Supplier Part Number 1: NTTFS5820NLTWG-ND; Supplier 2: Mouser; Supplier Part Number 2: 863-NTTFS5820NLTWG; Package Type: u8FL / WDFN-8; Packing: Tape and Reel; RoHS: Pb-Free; Mounting Technology: Surface Mount; ComponentLink1Description: Manufacturer URL; ComponentLink1URL: http://www.onsemi.com/; ComponentLink2Description: Datasheet; ComponentLink2URL: http://www.onsemi.cn/pub_link/Collateral/NTTFS5820NL-D.PDF; ComponentLink3Description: Package Specification; ComponentLink3URL: http://www.onsemi.com/pub_link/Collateral/511AB.PDF
footprint ONSC-WDFN-8-511AB_V (DFN, 8-Leads, Body 3.05x3.05mm, Pitch 0.65mm)
pins: 1 S, 2 S, 3 S, 4 G, 5 D
text: 1, 2, 3

## NTTFS5826NLTAG
designator Q?
Power MOSFET, 60 V, 24 mOhm, Single N-Channel, 8-Pin WDFN, Pb-Free, Tape and Reel; Manufacturer: On Semiconductor; PartNumber: NTTFS5826NLTAG; Channel Polarity: N Channel; Ciss Typ (pF): 850; Coss Typ (pF): 85; Crss Typ (pF): 50; ID Max (A): 20; Qrr Typ (nC): 13; V(BR)DSS Min (V): 60; VGS(th) Max (V): 3; DatasheetVersion: Rev. 2; PackageVersion: Rev. D, 04/2012; PackageReference: WDFN-8-511AB; PackageDescription: 8-Pin Small Outline No-Lead, Body 3.05 x 3.05 mm, Pitch 0.65 mm; Supplier 1: Digi-Key; Supplier Part Number 1: NTTFS5826NLTAGOSTR-ND; Supplier 2: Digi-Key; Supplier Part Number 2: NTTFS5826NLTAGOSCT-ND; Supplier 3: Digi-Key; Supplier Part Number 3: NTTFS5826NLTAGOSDKR-ND; Supplier 4: Newark; Supplier Part Number 4: 24T3500; Supplier 5: Mouser; Supplier Part Number 5: 863-NTTFS5826NLTAG; Configuration: Single; Package Type: u8FL / WDFN-8; Packing: Tape and Reel; RoHS: Pb-Free; VGS Max (V): 20; Mounting Technology: Surface Mount; ComponentLink1Description: Manufacturer URL; ComponentLink1URL: http://www.onsemi.com/; ComponentLink2Description: Datasheet; ComponentLink2URL: http://www.onsemi.cn/pub_link/Collateral/NTTFS5826NL-D.PDF; ComponentLink3Description: Package Specification; ComponentLink3URL: http://www.onsemi.com/pub_link/Collateral/511AB.PDF
footprint ONSC-WDFN-8-511AB_V (DFN, 8-Leads, Body 3.05x3.05mm, Pitch 0.65mm)
pins: 1 S, 2 S, 3 S, 4 G, 5 D
text: 1, 2, 3

## NTTFS5826NLTWG
designator Q?
Power MOSFET, 60 V, 24 mOhm, Single N-Channel, 8-Pin WDFN, Pb-Free, Tape and Reel; Manufacturer: On Semiconductor; PartNumber: NTTFS5826NLTWG; Channel Polarity: N Channel; Ciss Typ (pF): 850; Coss Typ (pF): 85; Crss Typ (pF): 50; ID Max (A): 20; Qrr Typ (nC): 13; V(BR)DSS Min (V): 60; VGS(th) Max (V): 3; DatasheetVersion: Rev. 2; PackageVersion: Rev. D, 04/2012; PackageReference: WDFN-8-511AB; PackageDescription: 8-Pin Small Outline No-Lead, Body 3.05 x 3.05 mm, Pitch 0.65 mm; Supplier 1: Digi-Key; Supplier Part Number 1: NTTFS5826NLTWG-ND; Supplier 2: Mouser; Supplier Part Number 2: 863-NTTFS5826NLTWG; Configuration: Single; Package Type: u8FL / WDFN-8; Packing: Tape and Reel; RoHS: Pb-Free; VGS Max (V): 20; Mounting Technology: Surface Mount; ComponentLink1Description: Manufacturer URL; ComponentLink1URL: http://www.onsemi.com/; ComponentLink2Description: Datasheet; ComponentLink2URL: http://www.onsemi.cn/pub_link/Collateral/NTTFS5826NL-D.PDF; ComponentLink3Description: Package Specification; ComponentLink3URL: http://www.onsemi.com/pub_link/Collateral/511AB.PDF
footprint ONSC-WDFN-8-511AB_V (DFN, 8-Leads, Body 3.05x3.05mm, Pitch 0.65mm)
pins: 1 S, 2 S, 3 S, 4 G, 5 D
text: 1, 2, 3

## NTUD3169CZT5G
designator Q?
Small Signal MOSFET, 20 V, 220 mA / -200 mA, 6-Pin SOT-963, Pb-Free, Tape and Reel; Manufacturer: On Semiconductor; PartNumber: NTUD3169CZT5G; Channel Polarity: Complementary; Configuration: Dual; V(BR)DSS Min (V): 20; VGS Max (V): 8; VGS(th) Max (V): 1; DatasheetVersion: Rev. 0; PackageVersion: Rev. E, 02/2010; PackageReference: SOT-963-6-527AD-01; PackageDescription: 6-Pin Small Outline Transistor, Body 1 x 0.8 mm, Pitch 0.35 mm; Supplier 1: Digi-Key; Supplier Part Number 1: NTUD3169CZT5GOSTR-ND; Supplier 2: Digi-Key; Supplier Part Number 2: NTUD3169CZT5GOSCT-ND; Supplier 3: Digi-Key; Supplier Part Number 3: NTUD3169CZT5GOSDKR-ND; Supplier 4: Farnell; Supplier Part Number 4: 1761010; Supplier 5: Newark; Supplier Part Number 5: 13P5616; Supplier 6: Mouser; Supplier Part Number 6: 863-NTUD3169CZT5G; Package Type: SOT-963; Packing: Tape and Reel; RoHS: Pb-Free; Mounting Technology: Surface Mount; ComponentLink1Description: Manufacturer URL; ComponentLink1URL: http://www.onsemi.com/; ComponentLink2Description: Datasheet; ComponentLink2URL: http://www.onsemi.cn/pub_link/Collateral/NTUD3169CZ-D.PDF; ComponentLink3Description: Package Specification; ComponentLink3URL: http://www.onsemi.cn/pub_link/Collateral/527AD.PDF
footprint ONSC-SOT-963-6-527AD-01_V (SOT23, 6-Leads, Body 1x0.8mm, Pitch 0.35mm)
part A pins: 1 S1, 2 G1, 6 D1
part B pins: 3 D2, 4 S2, 5 G2

## NTUD3170NZT5G
designator Q?
Small Signal MOSFET, 20 V, 220 mA, Dual N-Channel, 6-Pin SOT-963, Pb-Free, Tape and Reel; Manufacturer: On Semiconductor; PartNumber: NTUD3170NZT5G; Channel Polarity: N Channel; Ciss Typ (pF): 12.5; Coss Typ (pF): 3.6; Crss Typ (pF): 2.6; ID Max (A): 0.22; V(BR)DSS Min (V): 20; VGS Max (V): 8; VGS(th) Max (V): 1; DatasheetVersion: Rev. 0; PackageVersion: Rev. E, 02/2010; PackageReference: SOT-963-6-527AD-01; PackageDescription: 6-Pin Small Outline Transistor, Body 1 x 0.8 mm, Pitch 0.35 mm; Supplier 1: Digi-Key; Supplier Part Number 1: NTUD3170NZT5GOSTR-ND; Supplier 2: Digi-Key; Supplier Part Number 2: NTUD3170NZT5GOSCT-ND; Supplier 3: Digi-Key; Supplier Part Number 3: NTUD3170NZT5GOSDKR-ND; Supplier 4: Farnell; Supplier Part Number 4: 1761011; Supplier 5: Newark; Supplier Part Number 5: 13P5617; Supplier 6: Mouser; Supplier Part Number 6: 863-NTUD3170NZT5G; Configuration: Dual; Package Type: SOT-963; Packing: Tape and Reel; RoHS: Pb-Free; Mounting Technology: Surface Mount; ComponentLink1Description: Manufacturer URL; ComponentLink1URL: http://www.onsemi.com/; ComponentLink2Description: Datasheet; ComponentLink2URL: http://www.onsemi.cn/pub_link/Collateral/NTUD3170NZ-D.PDF; ComponentLink3Description: Package Specification; ComponentLink3URL: http://www.onsemi.cn/pub_link/Collateral/527AD.PDF
footprint ONSC-SOT-963-6-527AD-01_V (SOT23, 6-Leads, Body 1x0.8mm, Pitch 0.35mm)
part A pins: 1 S1, 2 G1, 6 D1
part B pins: 3 D2, 4 S2, 5 G2

## NTZD3152PT1G
designator Q?
Small Signal MOSFET, -20 V, -430 mA, Dual P-Channel with ESD Protection, 6-Pin SOT-563, Pb-Free, Tape and Reel; Manufacturer: On Semiconductor; PartNumber: NTZD3152PT1G; Channel Polarity: P Channel; Ciss Typ (pF): 105; Coss Typ (pF): 15; Crss Typ (pF): 10; ID Max (A): 0.43; V(BR)DSS Min (V): 20; VGS Max (V): 6; VGS(th) Max (V): 1; DatasheetVersion: Rev. 3; PackageVersion: Rev. F, 04/2005; PackageReference: SOT-563-6-463A-01; PackageDescription: 6-Pin Small Outline Transistor, Body 1.6 x 1.2 mm, Pitch 0.5 mm; Supplier 1: Digi-Key; Supplier Part Number 1: NTZD3152PT1GOSTR-ND; Supplier 2: Digi-Key; Supplier Part Number 2: NTZD3152PT1GOSCT-ND; Supplier 3: Digi-Key; Supplier Part Number 3: NTZD3152PT1GOSDKR-ND; Supplier 4: Newark; Supplier Part Number 4: 10N9591; Supplier 5: Newark; Supplier Part Number 5: 71J7067; Supplier 6: Mouser; Supplier Part Number 6: 863-NTZD3152PT1G; Configuration: Dual; Package Type: SOT-563; Packing: Tape and Reel; RoHS: Pb-Free; Mounting Technology: Surface Mount; ComponentLink1Description: Manufacturer URL; ComponentLink1URL: http://www.onsemi.com/; ComponentLink2Description: Datasheet; ComponentLink2URL: http://www.onsemi.com/pub_link/Collateral/NTZD3152P-D.PDF; ComponentLink3Description: Package Specification; ComponentLink3URL: http://www.onsemi.cn/pub_link/Collateral/463A-01.PDF
footprint ONSC-SOT-563-6-463A-01_V (SOT23, 6-Leads, Body 1.6x1.2mm, Pitch 0.5mm)
part A pins: 1 S1, 2 G1, 6 D1
part B pins: 3 D2, 4 S2, 5 G2

## NTZD3152PT1H
designator Q?
Small Signal MOSFET, -20 V, -430 mA, Dual P-Channel with ESD Protection, 6-Pin SOT-563, Pb-Free, Tape and Reel; Manufacturer: On Semiconductor; PartNumber: NTZD3152PT1H; Channel Polarity: P Channel; Ciss Typ (pF): 105; Coss Typ (pF): 15; Crss Typ (pF): 10; ID Max (A): 0.43; V(BR)DSS Min (V): 20; VGS Max (V): 6; VGS(th) Max (V): 1; DatasheetVersion: Rev. 3; PackageVersion: Rev. F, 04/2005; PackageReference: SOT-563-6-463A-01; PackageDescription: 6-Pin Small Outline Transistor, Body 1.6 x 1.2 mm, Pitch 0.5 mm; Supplier 1: Newark; Supplier Part Number 1: 72W2333; Supplier 2: Mouser; Supplier Part Number 2: 863-NTZD3152PT1H; Configuration: Dual; Package Type: SOT-563; Packing: Tape and Reel; RoHS: Pb-Free; Mounting Technology: Surface Mount; ComponentLink1Description: Manufacturer URL; ComponentLink1URL: http://www.onsemi.com/; ComponentLink2Description: Datasheet; ComponentLink2URL: http://www.onsemi.com/pub_link/Collateral/NTZD3152P-D.PDF; ComponentLink3Description: Package Specification; ComponentLink3URL: http://www.onsemi.cn/pub_link/Collateral/463A-01.PDF
footprint ONSC-SOT-563-6-463A-01_V (SOT23, 6-Leads, Body 1.6x1.2mm, Pitch 0.5mm)
part A pins: 1 S1, 2 G1, 6 D1
part B pins: 3 D2, 4 S2, 5 G2